# Altium footprint library ADGS2414DBCCZ.PcbLib: 3 footprints
Each footprint in its own frame and in the unit in brackets; x right, y up, seen from the top. Pads: shape width x height; smd on the part's side, far side on the other; paste and mask are expansions set on the pad; w line width, h text height; cw(c..) or ccw(c..) is an arc to the next point about the centre after c.
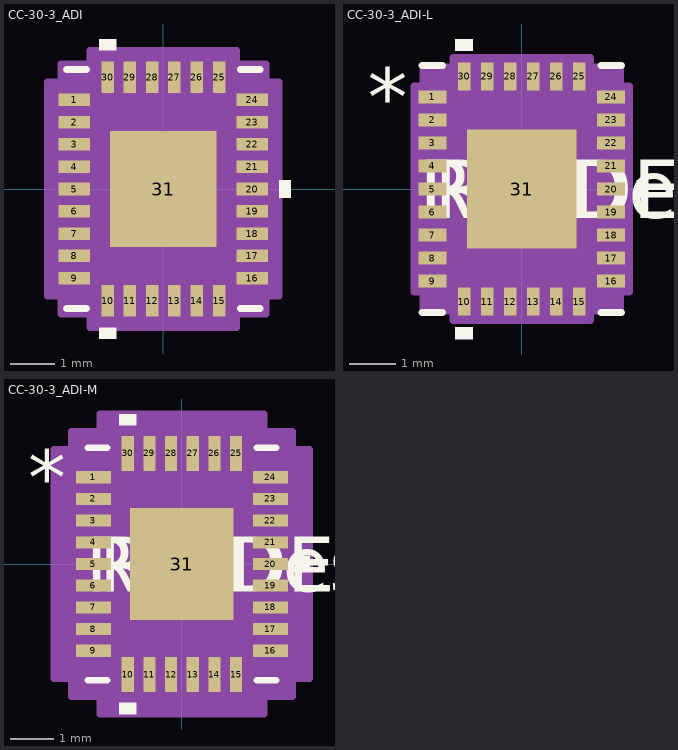
[diagram p0: the footprints below, top view; thin cyan lines are the x and y axes]

## CC-30-3_ADI [mm]
pads (31):
  rect 0.706x0.28 smd paste+0 mask+0: 1(-1.991,2) 2(-1.991,1.5) 3(-1.991,1) 4(-1.991,0.5) 5(-1.991,0) 6(-1.991,-0.5) 7(-1.991,-1) 8(-1.991,-1.5) 9(-1.991,-2) 16(1.991,-2) 17(1.991,-1.5) 18(1.991,-1) 19(1.991,-0.5) 20(1.991,0) 21(1.991,0.5) 22(1.991,1) 23(1.991,1.5) 24(1.991,2)
  rect 0.28x0.706 smd paste+0 mask+0: 10(-1.25,-2.499) 11(-0.75,-2.499) 12(-0.25,-2.499) 13(0.25,-2.499) 14(0.75,-2.499) 15(1.25,-2.499) 25(1.25,2.499) 26(0.75,2.499) 27(0.25,2.499) 28(-0.25,2.499) 29(-0.75,2.499) 30(-1.25,2.499)
  rect 2.388x2.591 smd paste+0 mask+0: 31(0,0)
Top Overlay:
  region: -1.06,3.107 -1.441,3.107 -1.441,3.361 -1.06,3.361
  region: 2.599,0.191 2.853,0.191 2.853,-0.191 2.599,-0.191
  region: -1.06,-3.107 -1.441,-3.107 -1.441,-3.361 -1.06,-3.361
  lines w0.152: -2.172,-2.68 -1.723,-2.68 ; -2.172,2.68 -1.723,2.68 ; 1.723,-2.68 2.172,-2.68 ; 1.723,2.68 2.172,2.68
  text "." at -3.175,1.905 h1.27
Mechanical 13:
  lines w0.025: -2.045,1.283 -0.775,2.553 ; -2.045,-2.553 -2.045,2.553 2.045,2.553 2.045,-2.553 -2.045,-2.553 ; -2.045,-2.165 -2.045,-1.835 -2.045,-2.165 ; -2.045,-1.665 -2.045,-1.335 -2.045,-1.665 ; -2.045,-1.165 -2.045,-0.835 -2.045,-1.165 ; -2.045,-0.665 -2.045,-0.335 -2.045,-0.665 ; -2.045,-0.165 -2.045,0.165 -2.045,-0.165 ; -2.045,0.335 -2.045,0.665 -2.045,0.335 ; -2.045,0.835 -2.045,1.165 -2.045,0.835 ; -2.045,1.335 -2.045,1.665 -2.045,1.335 ; -2.045,1.835 -2.045,2.165 -2.045,1.835 ; -1.415,-2.553 -1.085,-2.553 -1.415,-2.553 ; -1.415,2.553 -1.085,2.553 -1.415,2.553 ; -0.915,-2.553 -0.585,-2.553 -0.915,-2.553 ; -0.915,2.553 -0.585,2.553 -0.915,2.553 ; -0.415,-2.553 -0.085,-2.553 -0.415,-2.553 ; -0.415,2.553 -0.085,2.553 -0.415,2.553 ; 0.085,-2.553 0.415,-2.553 0.085,-2.553 ; 0.085,2.553 0.415,2.553 0.085,2.553 ; 0.585,-2.553 0.915,-2.553 0.585,-2.553 ; 0.585,2.553 0.915,2.553 0.585,2.553 ; 1.085,-2.553 1.415,-2.553 1.085,-2.553 ; 1.085,2.553 1.415,2.553 1.085,2.553 ; 2.045,-2.165 2.045,-1.835 2.045,-2.165 ; 2.045,-1.665 2.045,-1.335 2.045,-1.665 ; 2.045,-1.165 2.045,-0.835 2.045,-1.165 ; 2.045,-0.665 2.045,-0.335 2.045,-0.665 ; 2.045,-0.165 2.045,0.165 2.045,-0.165 ; 2.045,0.335 2.045,0.665 2.045,0.335 ; 2.045,0.835 2.045,1.165 2.045,0.835 ; 2.045,1.335 2.045,1.665 2.045,1.335 ; 2.045,1.835 2.045,2.165 2.045,1.835
  text "*" at -1.168,1.365 h1.27
Mechanical 15:
  region: -1.644,-2.807 -2.299,-2.807 -2.299,-2.394 -2.599,-2.394 -2.599,2.394 -2.299,2.394 -2.299,2.807 -1.644,2.807 -1.644,3.107 1.644,3.107 1.644,2.807 2.299,2.807 2.299,2.394 2.599,2.394 2.599,-2.394 2.299,-2.394 2.299,-2.807 1.644,-2.807 1.644,-3.107 -1.644,-3.107
  lines w0.152: -2.599,-2.394 -2.599,2.394 -2.299,2.394 -2.299,2.807 -1.644,2.807 -1.644,3.107 1.644,3.107 1.644,2.807 2.299,2.807 2.299,2.394 2.599,2.394 2.599,-2.394 2.299,-2.394 2.299,-2.807 1.644,-2.807 1.644,-3.107 -1.644,-3.107 -1.644,-2.807 -2.299,-2.807 -2.299,-2.394 -2.599,-2.394
3D body "CC-30-3_ADI.step": height 1.73, standoff 0, extent -2.045,-2.553 2.045,2.553

## CC-30-3_ADI-L [mm]
pads (31):
  rect 0.606x0.28 smd paste+0 mask+0: 1(-1.941,2) 2(-1.941,1.5) 3(-1.941,1) 4(-1.941,0.5) 5(-1.941,0) 6(-1.941,-0.5) 7(-1.941,-1) 8(-1.941,-1.5) 9(-1.941,-2) 16(1.941,-2) 17(1.941,-1.5) 18(1.941,-1) 19(1.941,-0.5) 20(1.941,0) 21(1.941,0.5) 22(1.941,1) 23(1.941,1.5) 24(1.941,2)
  rect 0.28x0.606 smd paste+0 mask+0: 10(-1.25,-2.449) 11(-0.75,-2.449) 12(-0.25,-2.449) 13(0.25,-2.449) 14(0.75,-2.449) 15(1.25,-2.449) 25(1.25,2.449) 26(0.75,2.449) 27(0.25,2.449) 28(-0.25,2.449) 29(-0.75,2.449) 30(-1.25,2.449)
  rect 2.388x2.591 smd paste+0 mask+0: 31(0,0)
Top Overlay:
  region: -1.06,-3.007 -1.441,-3.007 -1.441,-3.261 -1.06,-3.261
  region: 2.499,0.191 2.753,0.191 2.753,-0.191 2.499,-0.191
  region: -1.06,3.007 -1.441,3.007 -1.441,3.261 -1.06,3.261
  lines w0.152: -2.172,-2.68 -1.723,-2.68 ; -2.172,2.68 -1.723,2.68 ; 1.723,-2.68 2.172,-2.68 ; 1.723,2.68 2.172,2.68
  text "*" at -3.35,1.365 h1.27
  text "RefDes" at -1.905,-0.635 h1.27
  text "REFDES" at -2.222,-0.635 h1.27
Mechanical 13:
  lines w0.025: -2.045,1.283 -0.775,2.553 ; -2.045,-2.165 -2.045,-1.835 ; -2.045,-2.165 -2.045,-1.835 ; -2.045,-2.165 -2.045,-2.165 ; -2.045,-1.835 -2.045,-1.835 ; -2.045,-1.665 -2.045,-1.335 ; -2.045,-1.665 -2.045,-1.335 ; -2.045,-1.665 -2.045,-1.665 ; -2.045,-1.335 -2.045,-1.335 ; -2.045,-1.165 -2.045,-0.835 ; -2.045,-1.165 -2.045,-0.835 ; -2.045,-1.165 -2.045,-1.165 ; -2.045,-0.835 -2.045,-0.835 ; -2.045,-0.665 -2.045,-0.335 ; -2.045,-0.665 -2.045,-0.335 ; -2.045,-0.665 -2.045,-0.665 ; -2.045,-0.335 -2.045,-0.335 ; -2.045,-0.165 -2.045,0.165 ; -2.045,-0.165 -2.045,0.165 ; -2.045,-0.165 -2.045,-0.165 ; -2.045,0.165 -2.045,0.165 ; -2.045,0.335 -2.045,0.665 ; -2.045,0.335 -2.045,0.665 ; -2.045,0.335 -2.045,0.335 ; -2.045,0.665 -2.045,0.665 ; -2.045,0.835 -2.045,1.165 ; -2.045,0.835 -2.045,1.165 ; -2.045,0.835 -2.045,0.835 ; -2.045,1.165 -2.045,1.165 ; -2.045,1.335 -2.045,1.665 ; -2.045,1.335 -2.045,1.665 ; -2.045,1.335 -2.045,1.335 ; -2.045,1.665 -2.045,1.665 ; -2.045,1.835 -2.045,2.165 ; -2.045,1.835 -2.045,2.165 ; -2.045,1.835 -2.045,1.835 ; -2.045,2.165 -2.045,2.165 ; -1.415,-2.553 -1.085,-2.553 ; -1.415,-2.553 -1.415,-2.553 ; -1.415,-2.553 -1.085,-2.553 ; -1.415,2.553 -1.085,2.553 ; -1.415,2.553 -1.085,2.553 ; -1.415,2.553 -1.415,2.553 ; -1.085,-2.553 -1.085,-2.553 ; -1.085,2.553 -1.085,2.553 ; -0.915,-2.553 -0.585,-2.553 ; -0.915,-2.553 -0.915,-2.553 ; -0.915,-2.553 -0.585,-2.553 ; -0.915,2.553 -0.585,2.553 ; -0.915,2.553 -0.585,2.553 ; -0.915,2.553 -0.915,2.553 ; -0.585,-2.553 -0.585,-2.553 ; -0.585,2.553 -0.585,2.553 ; -0.415,-2.553 -0.085,-2.553 ; -0.415,-2.553 -0.415,-2.553 ; -0.415,-2.553 -0.085,-2.553 ; -0.415,2.553 -0.085,2.553 ; -0.415,2.553 -0.085,2.553 ; -0.415,2.553 -0.415,2.553 ; -0.085,-2.553 -0.085,-2.553 ; -0.085,2.553 -0.085,2.553 ; 0.085,-2.553 0.415,-2.553 ; 0.085,-2.553 0.085,-2.553 ; 0.085,-2.553 0.415,-2.553 ; 0.085,2.553 0.415,2.553 ; 0.085,2.553 0.415,2.553 ; 0.085,2.553 0.085,2.553 ; 0.415,-2.553 0.415,-2.553 ; 0.415,2.553 0.415,2.553 ; 0.585,-2.553 0.915,-2.553 ; 0.585,-2.553 0.585,-2.553 ; 0.585,-2.553 0.915,-2.553 ; 0.585,2.553 0.915,2.553 ; 0.585,2.553 0.915,2.553 ; 0.585,2.553 0.585,2.553 ; 0.915,-2.553 0.915,-2.553 ; 0.915,2.553 0.915,2.553 ; 1.085,-2.553 1.415,-2.553 ; 1.085,-2.553 1.085,-2.553 ; 1.085,-2.553 1.415,-2.553 ; 1.085,2.553 1.415,2.553 ; 1.085,2.553 1.415,2.553 ; 1.085,2.553 1.085,2.553 ; 1.415,-2.553 1.415,-2.553 ; 1.415,2.553 1.415,2.553 ; 2.045,-2.165 2.045,-1.835 ; 2.045,-2.165 2.045,-2.165 ; 2.045,-2.165 2.045,-1.835 ; 2.045,-1.835 2.045,-1.835 ; 2.045,-1.665 2.045,-1.335 ; 2.045,-1.665 2.045,-1.665 ; 2.045,-1.665 2.045,-1.335 ; 2.045,-1.335 2.045,-1.335 ; 2.045,-1.165 2.045,-0.835 ; 2.045,-1.165 2.045,-1.165 ; 2.045,-1.165 2.045,-0.835 ; 2.045,-0.835 2.045,-0.835 ; 2.045,-0.665 2.045,-0.335 ; 2.045,-0.665 2.045,-0.665 ; 2.045,-0.665 2.045,-0.335 ; 2.045,-0.335 2.045,-0.335 ; 2.045,-0.165 2.045,0.165 ; 2.045,-0.165 2.045,-0.165 ; 2.045,-0.165 2.045,0.165 ; 2.045,0.165 2.045,0.165 ; 2.045,0.335 2.045,0.665 ; 2.045,0.335 2.045,0.335 ; 2.045,0.335 2.045,0.665 ; 2.045,0.665 2.045,0.665 ; 2.045,0.835 2.045,1.165 ; 2.045,0.835 2.045,0.835 ; 2.045,0.835 2.045,1.165 ; 2.045,1.165 2.045,1.165 ; 2.045,1.335 2.045,1.665 ; 2.045,1.335 2.045,1.335 ; 2.045,1.335 2.045,1.665 ; 2.045,1.665 2.045,1.665 ; 2.045,1.835 2.045,2.165 ; 2.045,1.835 2.045,1.835 ; 2.045,1.835 2.045,2.165 ; 2.045,2.165 2.045,2.165 ; -2.045,-2.553 2.045,-2.553 2.045,2.553 -2.045,2.553 -2.045,-2.553
  text "*" at -1.168,1.365 h1.27
  text "RefDes2" at -2.222,-0.635 h1.27
Mechanical 15:
  region: -1.492,-2.654 -2.146,-2.654 -2.146,-2.242 -2.346,-2.242 -2.346,2.242 -2.146,2.242 -2.146,2.654 -1.492,2.654 -1.492,2.854 1.492,2.854 1.492,2.654 2.146,2.654 2.146,2.242 2.346,2.242 2.346,-2.242 2.146,-2.242 2.146,-2.654 1.492,-2.654 1.492,-2.854 -1.492,-2.854
  lines w0.152: -2.346,-2.242 -2.146,-2.242 -2.146,-2.654 -1.492,-2.654 -1.492,-2.854 1.492,-2.854 1.492,-2.654 2.146,-2.654 2.146,-2.242 2.346,-2.242 2.346,2.242 2.146,2.242 2.146,2.654 1.492,2.654 1.492,2.854 -1.492,2.854 -1.492,2.654 -2.146,2.654 -2.146,2.242 -2.346,2.242 -2.346,-2.242
3D body "CC-30-3_ADI.step": height 1.73, standoff 0, extent -2.045,-2.553 2.045,2.553

## CC-30-3_ADI-M [mm]
pads (31):
  rect 0.806x0.28 smd paste+0 mask+0: 1(-2.041,2) 2(-2.041,1.5) 3(-2.041,1) 4(-2.041,0.5) 5(-2.041,0) 6(-2.041,-0.5) 7(-2.041,-1) 8(-2.041,-1.5) 9(-2.041,-2) 16(2.041,-2) 17(2.041,-1.5) 18(2.041,-1) 19(2.041,-0.5) 20(2.041,0) 21(2.041,0.5) 22(2.041,1) 23(2.041,1.5) 24(2.041,2)
  rect 0.28x0.806 smd paste+0 mask+0: 10(-1.25,-2.549) 11(-0.75,-2.549) 12(-0.25,-2.549) 13(0.25,-2.549) 14(0.75,-2.549) 15(1.25,-2.549) 25(1.25,2.549) 26(0.75,2.549) 27(0.25,2.549) 28(-0.25,2.549) 29(-0.75,2.549) 30(-1.25,2.549)
  rect 2.388x2.591 smd paste+0 mask+0: 31(0,0)
Top Overlay:
  region: -1.06,-3.207 -1.441,-3.207 -1.441,-3.461 -1.06,-3.461
  region: 2.699,0.191 2.953,0.191 2.953,-0.191 2.699,-0.191
  region: -1.06,3.207 -1.441,3.207 -1.441,3.461 -1.06,3.461
  lines w0.152: -2.172,-2.68 -1.723,-2.68 ; -2.172,2.68 -1.723,2.68 ; 1.723,-2.68 2.172,-2.68 ; 1.723,2.68 2.172,2.68
  text "*" at -3.55,1.365 h1.27
  text "RefDes" at -1.905,-0.635 h1.27
  text "REFDES" at -2.222,-0.635 h1.27
Mechanical 13:
  lines w0.025: -2.045,1.283 -0.775,2.553 ; -2.045,-2.165 -2.045,-1.835 ; -2.045,-2.165 -2.045,-1.835 ; -2.045,-2.165 -2.045,-2.165 ; -2.045,-1.835 -2.045,-1.835 ; -2.045,-1.665 -2.045,-1.335 ; -2.045,-1.665 -2.045,-1.335 ; -2.045,-1.665 -2.045,-1.665 ; -2.045,-1.335 -2.045,-1.335 ; -2.045,-1.165 -2.045,-0.835 ; -2.045,-1.165 -2.045,-0.835 ; -2.045,-1.165 -2.045,-1.165 ; -2.045,-0.835 -2.045,-0.835 ; -2.045,-0.665 -2.045,-0.335 ; -2.045,-0.665 -2.045,-0.335 ; -2.045,-0.665 -2.045,-0.665 ; -2.045,-0.335 -2.045,-0.335 ; -2.045,-0.165 -2.045,0.165 ; -2.045,-0.165 -2.045,0.165 ; -2.045,-0.165 -2.045,-0.165 ; -2.045,0.165 -2.045,0.165 ; -2.045,0.335 -2.045,0.665 ; -2.045,0.335 -2.045,0.665 ; -2.045,0.335 -2.045,0.335 ; -2.045,0.665 -2.045,0.665 ; -2.045,0.835 -2.045,1.165 ; -2.045,0.835 -2.045,1.165 ; -2.045,0.835 -2.045,0.835 ; -2.045,1.165 -2.045,1.165 ; -2.045,1.335 -2.045,1.665 ; -2.045,1.335 -2.045,1.665 ; -2.045,1.335 -2.045,1.335 ; -2.045,1.665 -2.045,1.665 ; -2.045,1.835 -2.045,2.165 ; -2.045,1.835 -2.045,2.165 ; -2.045,1.835 -2.045,1.835 ; -2.045,2.165 -2.045,2.165 ; -1.415,-2.553 -1.085,-2.553 ; -1.415,-2.553 -1.415,-2.553 ; -1.415,-2.553 -1.085,-2.553 ; -1.415,2.553 -1.085,2.553 ; -1.415,2.553 -1.085,2.553 ; -1.415,2.553 -1.415,2.553 ; -1.085,-2.553 -1.085,-2.553 ; -1.085,2.553 -1.085,2.553 ; -0.915,-2.553 -0.585,-2.553 ; -0.915,-2.553 -0.915,-2.553 ; -0.915,-2.553 -0.585,-2.553 ; -0.915,2.553 -0.585,2.553 ; -0.915,2.553 -0.585,2.553 ; -0.915,2.553 -0.915,2.553 ; -0.585,-2.553 -0.585,-2.553 ; -0.585,2.553 -0.585,2.553 ; -0.415,-2.553 -0.085,-2.553 ; -0.415,-2.553 -0.415,-2.553 ; -0.415,-2.553 -0.085,-2.553 ; -0.415,2.553 -0.085,2.553 ; -0.415,2.553 -0.085,2.553 ; -0.415,2.553 -0.415,2.553 ; -0.085,-2.553 -0.085,-2.553 ; -0.085,2.553 -0.085,2.553 ; 0.085,-2.553 0.415,-2.553 ; 0.085,-2.553 0.085,-2.553 ; 0.085,-2.553 0.415,-2.553 ; 0.085,2.553 0.415,2.553 ; 0.085,2.553 0.415,2.553 ; 0.085,2.553 0.085,2.553 ; 0.415,-2.553 0.415,-2.553 ; 0.415,2.553 0.415,2.553 ; 0.585,-2.553 0.915,-2.553 ; 0.585,-2.553 0.585,-2.553 ; 0.585,-2.553 0.915,-2.553 ; 0.585,2.553 0.915,2.553 ; 0.585,2.553 0.915,2.553 ; 0.585,2.553 0.585,2.553 ; 0.915,-2.553 0.915,-2.553 ; 0.915,2.553 0.915,2.553 ; 1.085,-2.553 1.415,-2.553 ; 1.085,-2.553 1.085,-2.553 ; 1.085,-2.553 1.415,-2.553 ; 1.085,2.553 1.415,2.553 ; 1.085,2.553 1.415,2.553 ; 1.085,2.553 1.085,2.553 ; 1.415,-2.553 1.415,-2.553 ; 1.415,2.553 1.415,2.553 ; 2.045,-2.165 2.045,-1.835 ; 2.045,-2.165 2.045,-2.165 ; 2.045,-2.165 2.045,-1.835 ; 2.045,-1.835 2.045,-1.835 ; 2.045,-1.665 2.045,-1.335 ; 2.045,-1.665 2.045,-1.665 ; 2.045,-1.665 2.045,-1.335 ; 2.045,-1.335 2.045,-1.335 ; 2.045,-1.165 2.045,-0.835 ; 2.045,-1.165 2.045,-1.165 ; 2.045,-1.165 2.045,-0.835 ; 2.045,-0.835 2.045,-0.835 ; 2.045,-0.665 2.045,-0.335 ; 2.045,-0.665 2.045,-0.665 ; 2.045,-0.665 2.045,-0.335 ; 2.045,-0.335 2.045,-0.335 ; 2.045,-0.165 2.045,0.165 ; 2.045,-0.165 2.045,-0.165 ; 2.045,-0.165 2.045,0.165 ; 2.045,0.165 2.045,0.165 ; 2.045,0.335 2.045,0.665 ; 2.045,0.335 2.045,0.335 ; 2.045,0.335 2.045,0.665 ; 2.045,0.665 2.045,0.665 ; 2.045,0.835 2.045,1.165 ; 2.045,0.835 2.045,0.835 ; 2.045,0.835 2.045,1.165 ; 2.045,1.165 2.045,1.165 ; 2.045,1.335 2.045,1.665 ; 2.045,1.335 2.045,1.335 ; 2.045,1.335 2.045,1.665 ; 2.045,1.665 2.045,1.665 ; 2.045,1.835 2.045,2.165 ; 2.045,1.835 2.045,1.835 ; 2.045,1.835 2.045,2.165 ; 2.045,2.165 2.045,2.165 ; -2.045,-2.553 2.045,-2.553 2.045,2.553 -2.045,2.553 -2.045,-2.553
  text "*" at -1.168,1.365 h1.27
  text "RefDes2" at -2.222,-0.635 h1.27
Mechanical 15:
  region: -1.898,-3.061 -2.553,-3.061 -2.553,-2.648 -2.953,-2.648 -2.953,2.648 -2.553,2.648 -2.553,3.061 -1.898,3.061 -1.898,3.461 1.898,3.461 1.898,3.061 2.553,3.061 2.553,2.648 2.953,2.648 2.953,-2.648 2.553,-2.648 2.553,-3.061 1.898,-3.061 1.898,-3.461 -1.898,-3.461
  lines w0.152: -2.953,-2.648 -2.553,-2.648 -2.553,-3.061 -1.898,-3.061 -1.898,-3.461 1.898,-3.461 1.898,-3.061 2.553,-3.061 2.553,-2.648 2.953,-2.648 2.953,2.648 2.553,2.648 2.553,3.061 1.898,3.061 1.898,3.461 -1.898,3.461 -1.898,3.061 -2.553,3.061 -2.553,2.648 -2.953,2.648 -2.953,-2.648
3D body "CC-30-3_ADI.step": height 1.73, standoff 0, extent -2.045,-2.553 2.045,2.553